# Altium integrated library BQ51013BRHLT.IntLib: 2 symbols
Pins are listed as number, name and electrical type; pins without a type are passive.

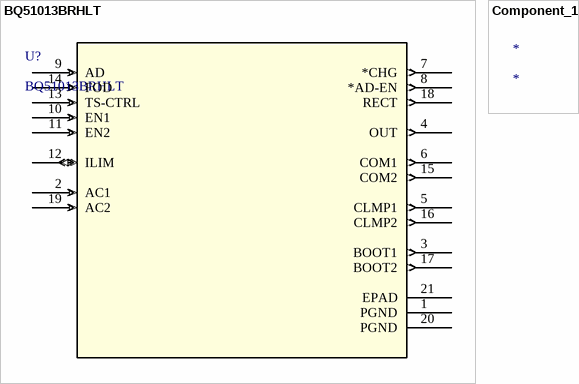
[diagram p0: symbols BQ51013BRHLT to Component_1]

## BQ51013BRHLT
designator U?
WPC 1.1 Compatible Fully Integrated Wireless Power Receiver IC; Manufacturer: Texas Instruments; INDUSTRY_STD_PKG_TYPE: QFN; FAMILY_NAME: Wireless Power - Receiver Solutions; PIN_COUNT: 20; PACKAGE_DESIGNATOR: RHL; Manufacturer_Part_Number: BQ51013BRHLT; Datasheet_URL: http://www.ti.com/lit/gpn/BQ51013B; GENERIC_PART_NUMBER: BQ51013B; Vendor: Texas Instruments; Copyright: Copyright (C) 2018 Accelerated Designs. All rights reserved; RefDes: RefDes; Type: DEV
footprint RHL20_2P05X3P05
pins: 1 PGND (power), 2 AC1 (in), 3 BOOT1 (out), 4 OUT (out), 5 CLMP1 (out), 6 COM1 (out), 7 *CHG (out), 8 *AD-EN (out), 9 AD (in), 10 EN1 (in), 11 EN2 (in), 12 ILIM (io), 13 TS-CTRL (in), 14 FOD (in), 15 COM2 (out), 16 CLMP2 (out), 17 BOOT2 (out), 18 RECT (out), 19 AC2 (in), 20 PGND (power), 21 EPAD

## Component_1
designator *